# Altium schematic symbol library SnapEDAsch.SchLib: 1 symbol
Pins are listed as number, name and electrical type; pins without a type are passive.

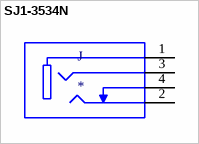
[diagram p0: symbol SJ1-3534N]

## SJ1-3534N
designator J
3,5 Ð¼Ð¼, ÑÑ‚ÐµÑ€ÐµÐ¾, Ð¿Ñ€ÑÐ¼Ð¾Ð¹ ÑƒÐ³Ð¾Ð», ÑÐºÐ²Ð¾Ð·Ð½Ð¾Ðµ Ð¾Ñ‚Ð²ÐµÑ€ÑÑ‚Ð¸Ðµ, Ð°ÑƒÐ´Ð¸Ð¾Ñ€Ð°Ð·ÑŠÐµÐ¼; MP: SJ1-3534N; MF: CUI Devices; SnapEDA_Link: https://www.snapeda.com/parts/SJ1-3534N/CUI%20Devices/view-part/576149/?ref=snap; Availability: Unavailable; Value: *; Price: None; Package: None; CUI_purchase_URL: https://www.cuidevices.com/product/interconnect/connectors/audio-connectors/jacks/sj1-353xn-series?utm_source=snapeda.com&utm_medium=referral&utm_campaign=snapedaBOM
footprint CUI_SJ1-3534N
pins: 1, 2, 3, 4